# Altium integrated library ST5-10-1.00-L-D-P-TR.IntLib: 1 symbol
Pins are listed as number, name and electrical type; pins without a type are passive.

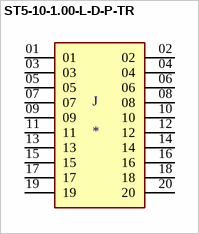
[diagram p0: symbol ST5-10-1.00-L-D-P-TR]

## ST5-10-1.00-L-D-P-TR
designator J
0.50 mm Micro Blade & Beam Slim Body Terminal Strip; MP: ST5-10-1.00-L-D-P-TR; MF: Samtec; Price: None; Value: *; Availability: Unavailable; Package: None
footprint SAMTEC_ST5-10-1.00-L-D-P-TR
pins: 01, 02, 03, 04, 05, 06, 07, 08, 09, 10, 11, 12, 13, 14, 15, 16, 17, 18, 19, 20